# EAGLE library part RFM69 (library vincent)
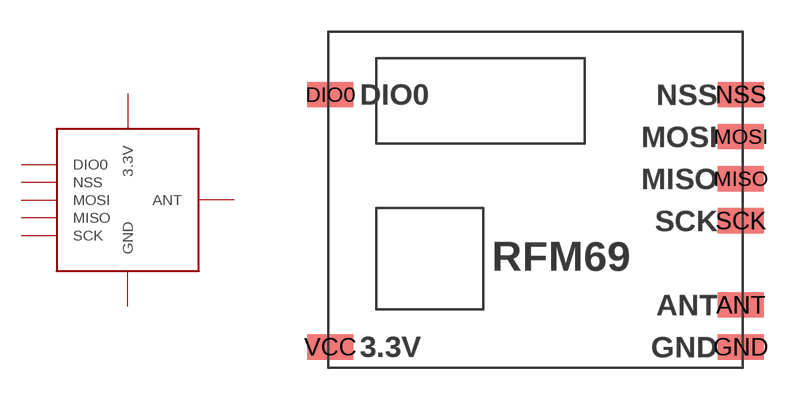
[diagram p0: symbol with the pads of RFM69W; footprint RFM69W]

Designator prefix -

## RFM69  [RFM69W]
ANT  ANT
DIO0  DIO0
GND  GND
MISO  MISO
MOSI  MOSI
NSS  NSS
SCK  SCK
VCC  3.3V  in

## Footprint RFM69W (pad centres in mm)
smd 2.2 x 1.2: ANT 10.71,-5.38; DIO0 -8.79,4.62; GND 10.71,-7.38; MISO 10.71,0.62; MOSI 10.71,2.62; NSS 10.71,4.62; SCK 10.71,-1.38; VCC -8.79,-7.38